# Altium integrated library 10uf_25v electrolytic cap.IntLib: 1 symbol
Pins are listed as number, name and electrical type; pins without a type are passive.

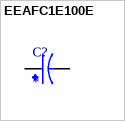
[diagram p0: symbol EEAFC1E100E]

## EEAFC1E100E
designator C?
Aluminum Electrolytic Capacitors, FC-A Series, 10uF +/- 20%, 25V, Radial lead type(4x7mm); MF: Panasonic; MP: EEA-FC1E100E; Price: None; SnapEDA_Link: https://www.snapeda.com/parts/EEA-FC1E100E/Panasonic/view-part/6222148/?ref=snap; Check_prices: https://www.snapeda.com/parts/EEA-FC1E100E/Panasonic/view-part/6222148/?ref=eda; Value: *; Package: RADIAL-2 Panasonic; Availability: In Stock
footprint CAPPRD500W45D400H700
pins: N, P